# Altium schematic symbol library KOA_Resistors.SchLib: 28 symbols
Pins are listed as number, name and electrical type; pins without a type are passive.

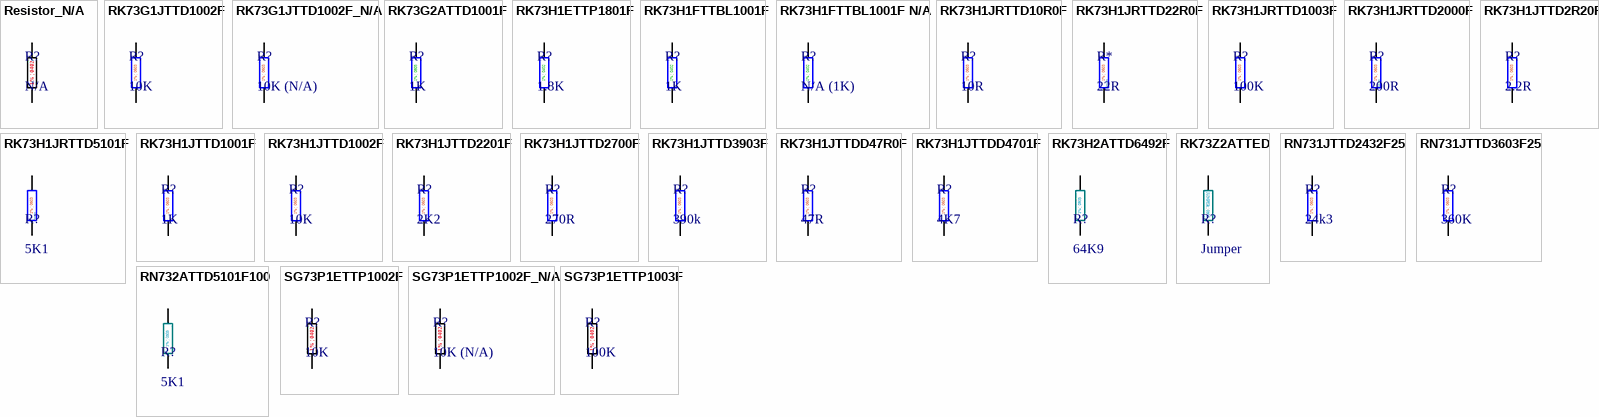
[diagram p0: symbols Resistor_N/A to SG73P1ETTP1003F]

## Resistor_N/A
designator R?, comment N/A  (no BOM)
footprint RES0402N/A (KOA N.A)
pins: 1, 2
text: 1% | 0402

## RK73G1JTTD1002F
designator R?, comment 10K
Thick Film Resistors - SMD 10K OHM 1% 50PPM; Manufacturer: KOA Speer; Manufacturer Part Number: RK73G1JTTD1002F; Resistance: 10KR; Power Rating: 100mW; Voltage Rating: 75V; Temperature Coefficient: 50ppm/°C; Supplier 1: Arrow; Stock 1: 3800; Pricing 1: 1=0.2033, 10=0.1259, 25=0.1243, 100=0.0666, 250=0.0659, 500=0.0651, 1000=0.0497, 3000=0.0492 (USD); Case/Package: 0603; Case Code (Imperial): 0603; Case Code (Metric): 1608; Min Operating Temperature: -55°C; Max Operating Temperature: 125°C; Tolerance: 1%; Packaging: Tape and Reel; Composition: Thick Film; Termination: SMD/SMT; Military Standard: Not; Length: 1.6mm; Depth: 0.8mm; ComponentLink1URL: http://www.mouser.com/ds/2/219/RK73G-9863.pdf; ComponentLink1Description: http://www.mouser.com/ds/2/219/RK73G-9863.pdf
footprint RES0603 (Chip Resistor, 2-Leads, Body 1.6x0.8mm, IPC Medium Density)
pins: 1, 2
text: 1% | 0603

## RK73G1JTTD1002F_N/A
designator R?, comment 10K (N/A)  (no BOM)
Thick Film Resistors - SMD 10K OHM 1% 50PPM; Manufacturer: KOA Speer; Manufacturer Part Number: RK73G1JTTD1002F; Resistance: 10KR; Power Rating: 100mW; Voltage Rating: 75V; Temperature Coefficient: 50ppm/°C; Supplier 1: Arrow; Stock 1: 3800; Pricing 1: 1=0.2033, 10=0.1259, 25=0.1243, 100=0.0666, 250=0.0659, 500=0.0651, 1000=0.0497, 3000=0.0492 (USD); Case/Package: 0603; Case Code (Imperial): 0603; Case Code (Metric): 1608; Min Operating Temperature: -55°C; Max Operating Temperature: 125°C; Tolerance: 1%; Packaging: Tape and Reel; Composition: Thick Film; Termination: SMD/SMT; Military Standard: Not; Length: 1.6mm; Depth: 0.8mm; ComponentLink1URL: http://www.mouser.com/ds/2/219/RK73G-9863.pdf; ComponentLink1Description: http://www.mouser.com/ds/2/219/RK73G-9863.pdf
footprint RES0603 (Chip Resistor, 2-Leads, Body 1.6x0.8mm, IPC Medium Density)
pins: 1, 2
text: 1% | 0603

## RK73G2ATTD1001F
designator R?, comment 1K
Thick Film Resistors - SMD 1K OHM 1% 50PPM; Manufacturer: KOA Speer; Manufacturer Part Number: RK73G2ATTD1001F; Power Rating: 125mW; Resistance: 1KR; Voltage Rating: 150V; Temperature Coefficient: 50ppm/°C; Supplier 1: Arrow; Stock 1: 3570; Pricing 1: 1=0.2033, 10=0.1259, 25=0.1243, 100=0.0666, 250=0.0659, 500=0.0651, 1000=0.0497, 3000=0.0492 (USD); Case/Package: 0805; Case Code (Imperial): 0805; Case Code (Metric): 2012; Min Operating Temperature: -55°C; Max Operating Temperature: 125°C; Packaging: Tape and Reel; Tolerance: 1%; Composition: Thick Film; Termination: SMD/SMT; Package Quantity: 5000; Length: 2mm; Height: 0.5mm; Width: 1.25mm; ComponentLink1URL: http://www.koaspeer.com/catimages/Products/RK73G/RK73G.pdf; ComponentLink1Description: http://www.koaspeer.com/catimages/Products/RK73G/RK73G.pdf
footprint RES0805
pins: 1, 2
text: 1% | 0805

## RK73H1ETTP1801F
designator R?, comment 1.8K
Thick Film Resistors - SMD 1.8K OHM 1%; Manufacturer: KOA Speer; Manufacturer Part Number: RK73H1ETTP1801F; Resistance: 1.8kR; Power Rating: 63mW; Voltage Rating: 50V; Temperature Coefficient: 100ppm/°C; Supplier 1: Mouser; Stock 1: 3595; Pricing 1: 1=0.11, 10=0.027, 50=0.027, 100=0.007, 1000=0.005, 10000=0.004 (USD); Case/Package: 0402; Case Code (Imperial): 0402; Case Code (Metric): 1005; Min Operating Temperature: -55°C; Max Operating Temperature: 155°C; Packaging: Tape and Reel; Tolerance: 1%; Package Quantity: 10000; Composition: Thick Film; Termination: SMD/SMT; Military Standard: Not; Length: 1mm; Height: 0.35mm; Width: 0.5mm; Depth: 0.5mm; Lead Free: Lead Free; ComponentLink1URL: https://datasheet.ciiva.com/5553/rk73h-5715-5553193.pdf; ComponentLink1Description: https://datasheet.ciiva.com/5553/rk73h-5715-5553193.pdf
footprint RES0402
pins: 1, 2
text: 1% | 0402

## RK73H1FTTBL1001F
designator R?, comment 1K
Thick Film Resistors - SMD 1/3W 1K OHM 1%; Manufacturer: KOA Speer; Manufacturer Part Number: RK73H1FTTBL1001F; Power Rating: 30 mW; Resistance: 1 kOhms; Temperature Coefficient: 250 PPM / C; Voltage Rating: 15 V; Qualification: AEC-Q200; Supplier 1: Mouser; RoHS: RoHS Compliant By Exemption; Category: Thick Film Resistors - SMD; Stock 1: 6349; Pricing 1: 1=0.641, 10=0.346, 100=0.196, 1000=0.130, 20000=0.123, 40000=0.101 (USD); Height: 0.13 mm; Length: 0.4 mm; Operating Temperature Range: - 55 C to + 125 C; Package / Case: 01005 (0402 metric); Packaging: Cut Tape; Product: Thick Film Resistors SMD; Series: RK73H; Termination Style: SMD/SMT; Tolerance: 1 %; Type: Precision Resistor; Width: 0.2 mm; Brand: KOA Speer; Case Code - in: 01005; Case Code - mm: 0402; Maximum Operating Temperature: + 125 C; Minimum Operating Temperature: - 55 C; Standard Pack Qty: 20000; RoHS - Mouser: E; Minimum Order Quantity: 1; Reeling: True; ComponentLink1URL: http://www.mouser.com/ds/2/219/RK73H-5715.pdf; ComponentLink1Description: http://www.mouser.com/ds/2/219/RK73H-5715.pdf
footprint RES0402
pins: 1, 2
text: 1% | 0402

## RK73H1FTTBL1001F N/A
designator R?, comment N/A (1K)  (no BOM)
Thick Film Resistors - SMD 1/3W 1K OHM 1%; Manufacturer: KOA Speer; Manufacturer Part Number: RK73H1FTTBL1001F; Power Rating: 30 mW; Resistance: 1 kOhms; Temperature Coefficient: 250 PPM / C; Voltage Rating: 15 V; Qualification: AEC-Q200; Supplier 1: Mouser; RoHS: RoHS Compliant By Exemption; Category: Thick Film Resistors - SMD; Stock 1: 6349; Pricing 1: 1=0.641, 10=0.346, 100=0.196, 1000=0.130, 20000=0.123, 40000=0.101 (USD); Height: 0.13 mm; Length: 0.4 mm; Operating Temperature Range: - 55 C to + 125 C; Package / Case: 01005 (0402 metric); Packaging: Cut Tape; Product: Thick Film Resistors SMD; Series: RK73H; Termination Style: SMD/SMT; Tolerance: 1 %; Type: Precision Resistor; Width: 0.2 mm; Brand: KOA Speer; Case Code - in: 01005; Case Code - mm: 0402; Maximum Operating Temperature: + 125 C; Minimum Operating Temperature: - 55 C; Standard Pack Qty: 20000; RoHS - Mouser: E; Minimum Order Quantity: 1; Reeling: True; ComponentLink1URL: http://www.mouser.com/ds/2/219/RK73H-5715.pdf; ComponentLink1Description: http://www.mouser.com/ds/2/219/RK73H-5715.pdf
footprint RES0402
pins: 1, 2
text: 1% | 0402

## RK73H1JRTTD10R0F
designator R?, comment 10R
Thick Film Resistors - SMD Anti Sulfur 1.0 Tol. 0603 -55oC to 155oC; Manufacturer: KOA Speer; Manufacturer Part Number: RK73H1JRTTD10R0F; Power Rating: 100 mW (1/10 W); Resistance: 10 Ohms; Temperature Coefficient: 100 PPM / C; Tolerance: 1 %; Voltage Rating: 75 V; Qualification: AEC-Q200; Supplier 1: Mouser; RoHS: RoHS Compliant; Category: Thick Film Resistors - SMD; Stock 1: 8438; Pricing 1: 1=0.249, 50=0.143, 100=0.084, 500=0.046, 1000=0.035, 5000=0.032, 10000=0.024, 15000=0.020 (USD); Height: 0.45 mm; Length: 1.6 mm; Package / Case: 0603 (1608 metric); Packaging: Cut Tape; Product: Thick Film Resistors SMD; Series: RK73H-RT; Termination Style: SMD/SMT; Type: Precision Thick Film Chip Resistor; Width: 0.8 mm; Brand: KOA Speer; Case Code - in: 0603; Case Code - mm: 1608; Maximum Operating Temperature: + 155 C; Minimum Operating Temperature: - 55 C; Standard Pack Qty: 5000; RoHS - Mouser: Y; Minimum Order Quantity: 1; Reeling: True; ComponentLink1URL: https://www.mouser.com/ds/2/219/RK73H-5715.pdf; ComponentLink1Description: https://www.mouser.com/ds/2/219/RK73H-5715.pdf
footprint RES0603 (Chip Resistor, 2-Leads, Body 1.6x0.8mm, IPC Medium Density)
pins: 1, 2
text: 1% | 0603

## RK73H1JRTTD22R0F
designator R*, comment 22R
Thick Film Resistors - SMD Anti Sulfur 1.0 Tol. 0603 -55oC to 155oC; Manufacturer: KOA Speer; Manufacturer Part Number: RK73H1JRTTD22R0F; Power Rating: 100 mW; Resistance: 22 Ohms; Temperature Coefficient: 100 PPM / C; Tolerance: 1 %; Voltage Rating: 75 V; Qualification: AEC-Q200; Supplier 1: Mouser; RoHS: RoHS Compliant; Category: Thick Film Resistors - SMD; Stock 1: 4722; Pricing 1: 1=1.20, 50=0.084, 100=0.046, 500=0.035, 1000=0.032, 5000=0.031, 10000=0.018, 15000=0.017 (USD); Height: 0.45 mm; Length: 1.6 mm; Operating Temperature Range: - 55 C to + 155 C; Package / Case: 0603 (1608 metric); Packaging: Cut Tape; Product: Thick Film Resistors SMD; Series: RK73H-RT; Termination Style: SMD/SMT; Type: Precision Thick Film Chip Resistor; Width: 0.8 mm; Brand: KOA Speer; Case Code - in: 0603; Case Code - mm: 1608; Maximum Operating Temperature: + 155 C; Minimum Operating Temperature: - 55 C; Standard Pack Qty: 5000; RoHS - Mouser: Y; Minimum Order Quantity: 1; Reeling: True; ComponentLink1URL: http://www.mouser.com/ds/2/219/RK73H-5715.pdf; ComponentLink1Description: http://www.mouser.com/ds/2/219/RK73H-5715.pdf
footprint RES0603 (Chip Resistor, 2-Leads, Body 1.6x0.8mm, IPC Medium Density)
pins: 1, 2
text: 1% | 0603; Antisulfur

## RK73H1JRTTD1003F
designator R?, comment 100K
Thick Film Resistors - SMD Anti Sulfur 1.0 Tol. 0603 -55oC to 155oC; Manufacturer: KOA Speer; Manufacturer Part Number: RK73H1JRTTD1003F; Power Rating: 100 mW (1/10 W); Resistance: 100 kOhms; Temperature Coefficient: 100 PPM / C; Tolerance: 1 %; Voltage Rating: 75 V; Qualification: AEC-Q200; Supplier 1: Mouser; RoHS: RoHS Compliant; Category: Thick Film Resistors - SMD; Stock 1: 4189; Pricing 1: 1=0.249, 50=0.143, 100=0.084, 500=0.046, 1000=0.035, 5000=0.032, 10000=0.024, 15000=0.020 (USD); Height: 0.45 mm; Length: 1.6 mm; Package / Case: 0603 (1608 metric); Packaging: Cut Tape; Product: Thick Film Resistors SMD; Series: RK73H-RT; Termination Style: SMD/SMT; Type: Precision Thick Film Chip Resistor; Width: 0.8 mm; Brand: KOA Speer; Case Code - in: 0603; Case Code - mm: 1608; Maximum Operating Temperature: + 155 C; Minimum Operating Temperature: - 55 C; Standard Pack Qty: 5000; RoHS - Mouser: Y; Minimum Order Quantity: 1; Reeling: True; ComponentLink1URL: https://www.mouser.com/ds/2/219/RK73H-5715.pdf; ComponentLink1Description: https://www.mouser.com/ds/2/219/RK73H-5715.pdf
footprint RES0603 (Chip Resistor, 2-Leads, Body 1.6x0.8mm, IPC Medium Density)
pins: 1, 2
text: 1% | 0603

## RK73H1JRTTD2000F
designator R?, comment 200R
Thick Film Resistors - SMD Anti Sulfur 1.0 Tol. 0603 -55oC to 155oC; Manufacturer: KOA Speer; Manufacturer Part Number: RK73H1JRTTD2000F; Power Rating: 100 mW (1/10 W); Resistance: 200 Ohms; Temperature Coefficient: 100 PPM / C; Tolerance: 1 %; Voltage Rating: 75 V; Qualification: AEC-Q200; Supplier 1: Mouser; RoHS: RoHS Compliant; Category: Thick Film Resistors - SMD; Stock 1: 7400; Pricing 1: 1=0.249, 50=0.143, 100=0.084, 500=0.046, 1000=0.035, 5000=0.032, 10000=0.024, 15000=0.020, 25000=0.017 (USD); Height: 0.45 mm; Length: 1.6 mm; Package / Case: 0603 (1608 metric); Packaging: Cut Tape; Product: Thick Film Resistors SMD; Series: RK73H-RT; Termination Style: SMD/SMT; Type: Precision Thick Film Chip Resistor; Width: 0.8 mm; Brand: KOA Speer; Case Code - in: 0603; Case Code - mm: 1608; Maximum Operating Temperature: + 155 C; Minimum Operating Temperature: - 55 C; Standard Pack Qty: 5000; RoHS - Mouser: Y; Minimum Order Quantity: 1; Reeling: True; ComponentLink1URL: https://www.mouser.com/ds/2/219/RK73H-5715.pdf; ComponentLink1Description: https://www.mouser.com/ds/2/219/RK73H-5715.pdf
footprint RES0603 (Chip Resistor, 2-Leads, Body 1.6x0.8mm, IPC Medium Density)
pins: 1, 2
text: 1% | 0603; Antisulfur

## RK73H1JRTTD5101F
designator R?, comment 5K1
Thick Film Resistors - SMD Anti Sulfur 0.5 Tol. 0603 -55oC to 155oC; Manufacturer: KOA Speer; Manufacturer Part Number: RK73H1JRTTD5101F; Power Rating: 100 mW (1/10 W); Resistance: 5.1 kOhms; Temperature Coefficient: 100 PPM / C; Tolerance: 1 %; Voltage Rating: 75 V; Qualification: AEC-Q200; Supplier 1: Mouser; RoHS: RoHS Compliant; Category: Thick Film Resistors - SMD; Stock 1: 4972; Pricing 1: 1=0.249, 50=0.143, 100=0.084, 500=0.046, 1000=0.035, 5000=0.032, 10000=0.024, 15000=0.020 (USD); Height: 0.45 mm; Length: 1.6 mm; Package / Case: 0603 (1608 metric); Packaging: Cut Tape; Product: Thick Film Resistors SMD; Series: RK73H-RT; Termination Style: SMD/SMT; Type: Precision Thick Film Chip Resistor; Width: 0.8 mm; Brand: KOA Speer; Case Code - in: 0603; Case Code - mm: 1608; Maximum Operating Temperature: + 155 C; Minimum Operating Temperature: - 55 C; Standard Pack Qty: 5000; RoHS - Mouser: Y; Minimum Order Quantity: 1; Reeling: True; ComponentLink1URL: https://www.mouser.com/ds/2/219/RK73H-5715.pdf; ComponentLink1Description: https://www.mouser.com/ds/2/219/RK73H-5715.pdf
footprint RES0603 (Chip Resistor, 2-Leads, Body 1.6x0.8mm, IPC Medium Density)
pins: 1, 2
text: 1% | 0603; Antisulfur

## RK73H1JTTD2R20F
designator R?, comment 2.2R
Thick Film Resistors - SMD 2.2 OHM 1%; Manufacturer: KOA Speer; Manufacturer Part Number: RK73H1JTTD2R20F; Power Rating: 100 mW; Resistance: 2.2 Ohms; Temperature Coefficient: 200 PPM / C; Voltage Rating: 75 V; Qualification: AEC-Q200; Supplier 1: Mouser; RoHS: RoHS Compliant By Exemption; Category: Thick Film Resistors - SMD; Stock 1: 0; Pricing 1: 1=0.131, 10=0.018, 100=0.009, 500=0.007, 1000=0.006, 5000=0.005, 50000=0.004 (USD); Features: Anti-leaching nickel barrier terminations; Height: 0.45 mm; Length: 1.6 mm; Operating Temperature Range: - 55 C to + 155 C; Package / Case: 0603 (1608 metric); Packaging: Cut Tape; Product: Thick Film Resistors SMD; Series: RK73H; Termination Style: SMD/SMT; Tolerance: 1 %; Type: Precision Thick Film Chip Resistor; Width: 0.8 mm; Brand: KOA Speer; Case Code - in: 0603; Case Code - mm: 1608; Maximum Operating Temperature: + 155 C; Minimum Operating Temperature: - 55 C; Standard Pack Qty: 5000; RoHS - Mouser: E; Minimum Order Quantity: 1; Reeling: True; ComponentLink1URL: http://www.mouser.com/ds/2/219/RK73H-5715.pdf; ComponentLink1Description: http://www.mouser.com/ds/2/219/RK73H-5715.pdf
footprint RES0603 (Chip Resistor, 2-Leads, Body 1.6x0.8mm, IPC Medium Density)
pins: 1, 2
text: 1% | 0603

## RK73H1JTTD1001F
designator R?, comment 1K
Thick Film Resistors - SMD 1/10watts 1Kohms 1%; Manufacturer: KOA Speer; Manufacturer Part Number: RK73H1JTTD1001F; Power Rating: 100 mW; Temperature Coefficient: 100 PPM / C; Voltage Rating: 75 V; Qualification: AEC-Q200; Supplier 1: Mouser; RoHS: RoHS Compliant By Exemption; Category: Thick Film Resistors - SMD; Stock 1: 103999; Pricing 1: 1=0.131, 10=0.018, 100=0.009, 500=0.007, 1000=0.006, 5000=0.005, 50000=0.004 (USD); Features: Anti-leaching nickel barrier terminations; Height: 0.45 mm; Length: 1.6 mm; Operating Temperature Range: - 55 C to + 155 C; Package / Case: 0603 (1608 metric); Packaging: Cut Tape; Product: Thick Film Resistors SMD; Resistance: 1 kOhms; Series: RK73H; Termination Style: SMD/SMT; Tolerance: 1 %; Type: Precision Thick Film Chip Resistor; Width: 0.8 mm; Brand: KOA Speer; Case Code - in: 0603; Case Code - mm: 1608; Maximum Operating Temperature: + 155 C; Minimum Operating Temperature: - 55 C; Standard Pack Qty: 5000; RoHS - Mouser: E; Minimum Order Quantity: 1; Reeling: True; ComponentLink1URL: http://www.mouser.com/ds/2/219/RK73H-5715.pdf; ComponentLink1Description: http://www.mouser.com/ds/2/219/RK73H-5715.pdf
footprint RES0603 (Chip Resistor, 2-Leads, Body 1.6x0.8mm, IPC Medium Density)
pins: 1, 2
text: 1% | 0603

## RK73H1JTTD1002F
designator R?, comment 10K
Thick Film Resistors - SMD 1/10watts 10Kohms 1%; Manufacturer: KOA Speer; Manufacturer Part Number: RK73H1JTTD1002F; Power Rating: 100 mW; Temperature Coefficient: 100 PPM / C; Voltage Rating: 75 V; Qualification: AEC-Q200; Supplier 1: Mouser; RoHS: RoHS Compliant By Exemption; Category: Thick Film Resistors - SMD; Stock 1: 1562883; Pricing 1: 1=0.131, 10=0.018, 100=0.009, 500=0.007, 1000=0.006, 5000=0.005, 50000=0.004 (USD); Features: Anti-leaching nickel barrier terminations; Height: 0.45 mm; Length: 1.6 mm; Operating Temperature Range: - 55 C to + 155 C; Package / Case: 0603 (1608 metric); Packaging: Cut Tape; Product: Thick Film Resistors SMD; Resistance: 10 kOhms; Series: RK73H; Termination Style: SMD/SMT; Tolerance: 1 %; Type: Precision Thick Film Chip Resistor; Width: 0.8 mm; Brand: KOA Speer; Case Code - in: 0603; Case Code - mm: 1608; Maximum Operating Temperature: + 155 C; Minimum Operating Temperature: - 55 C; Standard Pack Qty: 5000; RoHS - Mouser: E; Minimum Order Quantity: 1; Reeling: True; ComponentLink1URL: http://www.mouser.com/ds/2/219/RK73H-5715.pdf; ComponentLink1Description: http://www.mouser.com/ds/2/219/RK73H-5715.pdf
footprint RES0603 (Chip Resistor, 2-Leads, Body 1.6x0.8mm, IPC Medium Density)
pins: 1, 2
text: 1% | 0603

## RK73H1JTTD2201F
designator R?, comment 2K2
Thick Film Resistors - SMD 1/10watt 2.2Kohms 1%; Manufacturer: KOA Speer; Manufacturer Part Number: RK73H1JTTD2201F; Power Rating: 100 mW; Temperature Coefficient: 100 PPM / C; Voltage Rating: 75 V; Qualification: AEC-Q200; Supplier 1: Mouser; RoHS: RoHS Compliant By Exemption; Category: Thick Film Resistors - SMD; Stock 1: 82098; Pricing 1: 1=0.131, 10=0.018, 100=0.009, 500=0.007, 1000=0.006, 5000=0.005, 50000=0.004 (USD); Features: Anti-leaching nickel barrier terminations; Height: 0.45 mm; Length: 1.6 mm; Operating Temperature Range: - 55 C to + 155 C; Package / Case: 0603 (1608 metric); Packaging: Cut Tape; Product: Thick Film Resistors SMD; Resistance: 2.2 kOhms; Series: RK73H; Termination Style: SMD/SMT; Tolerance: 1 %; Type: Precision Thick Film Chip Resistor; Width: 0.8 mm; Brand: KOA Speer; Case Code - in: 0603; Case Code - mm: 1608; Maximum Operating Temperature: + 155 C; Minimum Operating Temperature: - 55 C; Standard Pack Qty: 5000; RoHS - Mouser: E; Minimum Order Quantity: 1; Reeling: True; ComponentLink1URL: http://www.mouser.com/ds/2/219/RK73H-5715.pdf; ComponentLink1Description: http://www.mouser.com/ds/2/219/RK73H-5715.pdf
footprint RES0603 (Chip Resistor, 2-Leads, Body 1.6x0.8mm, IPC Medium Density)
pins: 1, 2
text: 1% | 0603

## RK73H1JTTD2700F
designator R?, comment 270R
Thick Film Resistors - SMD 1/10watts 270ohms 1%; Manufacturer: KOA Speer; Manufacturer Part Number: RK73H1JTTD2700F; Power Rating: 100 mW (1/10 W); Temperature Coefficient: 100 PPM / C; Voltage Rating: 75 V; Qualification: AEC-Q200; Supplier 1: Mouser; RoHS: RoHS Compliant By Exemption; Category: Thick Film Resistors - SMD; Stock 1: 38805; Pricing 1: 1=0.131, 10=0.018, 100=0.009, 500=0.007, 1000=0.006, 5000=0.005, 50000=0.004 (USD); Features: Anti-leaching nickel barrier terminations; Height: 0.45 mm; Length: 1.6 mm; Package / Case: 0603 (1608 metric); Packaging: Cut Tape; Product: Thick Film Resistors SMD; Resistance: 270 Ohms; Series: RK73H; Termination Style: SMD/SMT; Tolerance: 1 %; Type: Precision Thick Film Chip Resistor; Width: 0.8 mm; Brand: KOA Speer; Case Code - in: 0603; Case Code - mm: 1608; Maximum Operating Temperature: + 155 C; Minimum Operating Temperature: - 55 C; Standard Pack Qty: 5000; RoHS - Mouser: E; Minimum Order Quantity: 1; Reeling: True; ComponentLink1URL: https://www.mouser.com/ds/2/219/RK73H-5715.pdf; ComponentLink1Description: https://www.mouser.com/ds/2/219/RK73H-5715.pdf
footprint RES0603 (Chip Resistor, 2-Leads, Body 1.6x0.8mm, IPC Medium Density)
pins: 1, 2
text: 1% | 0603

## RK73H1JTTD3903F
designator R?, comment 390k
Thick Film Resistors - SMD 1/10watt 390Kohms 1%; Manufacturer: KOA Speer; Manufacturer Part Number: RK73H1JTTD3903F; Power Rating: 100 mW; Temperature Coefficient: 100 PPM / C; Voltage Rating: 75 V; Qualification: AEC-Q200; Supplier 1: Mouser; RoHS: RoHS Compliant By Exemption; Category: Thick Film Resistors - SMD; Stock 1: 45788; Pricing 1: 1=0.131, 10=0.018, 100=0.009, 500=0.007, 1000=0.006, 5000=0.005, 50000=0.004 (USD); Features: Anti-leaching nickel barrier terminations; Height: 0.45 mm; Length: 1.6 mm; Operating Temperature Range: - 55 C to + 155 C; Package / Case: 0603 (1608 metric); Packaging: Cut Tape; Product: Thick Film Resistors SMD; Resistance: 390 kOhms; Series: RK73H; Termination Style: SMD/SMT; Tolerance: 1 %; Type: Precision Thick Film Chip Resistor; Width: 0.8 mm; Brand: KOA Speer; Case Code - in: 0603; Case Code - mm: 1608; Maximum Operating Temperature: + 155 C; Minimum Operating Temperature: - 55 C; Standard Pack Qty: 5000; RoHS - Mouser: E; Minimum Order Quantity: 1; Reeling: True; ComponentLink1URL: http://www.mouser.com/ds/2/219/RK73H-5715.pdf; ComponentLink1Description: http://www.mouser.com/ds/2/219/RK73H-5715.pdf
footprint RES0603 (Chip Resistor, 2-Leads, Body 1.6x0.8mm, IPC Medium Density)
pins: 1, 2
text: 1% | 0603

## RK73H1JTTDD47R0F
designator R?, comment 47R
Thick Film Resistors - SMD 47 OHM 1%; Manufacturer: KOA Speer; Manufacturer Part Number: RK73H1JTTDD47R0F; Power Rating: 100 mW; Resistance: 47 Ohms; Temperature Coefficient: 100 PPM / C; Voltage Rating: 75 V; Qualification: AEC-Q200; Supplier 1: Mouser; RoHS: RoHS Compliant By Exemption; Category: Thick Film Resistors - SMD; Stock 1: 22937; Pricing 1: 1=0.131, 10=0.018, 100=0.009, 500=0.007, 1000=0.006, 5000=0.005, 10000=0.005, 20000=0.004 (USD); Features: Anti-leaching nickel barrier terminations; Height: 0.45 mm; Length: 1.6 mm; Operating Temperature Range: - 55 C to + 155 C; Package / Case: 0603 (1608 metric); Packaging: Cut Tape; Product: Thick Film Resistors SMD; Series: RK73H; Termination Style: SMD/SMT; Tolerance: 1 %; Type: Precision Thick Film Chip Resistor; Width: 0.8 mm; Brand: KOA Speer; Case Code - in: 0603; Case Code - mm: 1608; Maximum Operating Temperature: + 155 C; Minimum Operating Temperature: - 55 C; Standard Pack Qty: 10000; RoHS - Mouser: E; Minimum Order Quantity: 1; Reeling: True; ComponentLink1URL: http://www.mouser.com/ds/2/219/RK73H-5715.pdf; ComponentLink1Description: http://www.mouser.com/ds/2/219/RK73H-5715.pdf
footprint RES0603 (Chip Resistor, 2-Leads, Body 1.6x0.8mm, IPC Medium Density)
pins: 1, 2
text: 1% | 0603

## RK73H1JTTDD4701F
designator R?, comment 4K7
Thick Film Resistors - SMD 1/10W 4.7K OHM 1%; Manufacturer: KOA Speer; Manufacturer Part Number: RK73H1JTTDD4701F; Power Rating: 100 mW (1/10 W); Resistance: 4.7 kOhms; Temperature Coefficient: 100 PPM / C; Voltage Rating: 75 V; Qualification: AEC-Q200; Supplier 1: Mouser; RoHS: RoHS Compliant By Exemption; Category: Thick Film Resistors - SMD; Stock 1: 13557; Pricing 1: 1=0.131, 10=0.018, 100=0.009, 500=0.007, 1000=0.006, 5000=0.005, 10000=0.005, 20000=0.004 (USD); Features: Anti-leaching nickel barrier terminations; Height: 0.45 mm; Length: 1.6 mm; Package / Case: 0603 (1608 metric); Packaging: Cut Tape; Product: Thick Film Resistors SMD; Series: RK73H; Termination Style: SMD/SMT; Tolerance: 1 %; Type: Precision Thick Film Chip Resistor; Width: 0.8 mm; Brand: KOA Speer; Case Code - in: 0603; Case Code - mm: 1608; Maximum Operating Temperature: + 155 C; Minimum Operating Temperature: - 55 C; Standard Pack Qty: 10000; RoHS - Mouser: E; Minimum Order Quantity: 1; Reeling: True; ComponentLink1URL: https://www.mouser.com/ds/2/219/RK73H-5715.pdf; ComponentLink1Description: https://www.mouser.com/ds/2/219/RK73H-5715.pdf
footprint RES0603 (Chip Resistor, 2-Leads, Body 1.6x0.8mm, IPC Medium Density)
pins: 1, 2
text: 1% | 0603

## RK73H2ATTD6492F
designator R?, comment 64K9
Thick Film Resistors - SMD 1/4W 64.9K OHM 1%; Manufacturer: KOA Speer; Manufacturer Part Number: RK73H2ATTD6492F; Power Rating: 250 mW (1/4 W); Resistance: 64.9 kOhms; Temperature Coefficient: 100 PPM / C; Voltage Rating: 150 V; Qualification: AEC-Q200; Supplier 1: Mouser; RoHS: RoHS Compliant By Exemption; Category: Thick Film Resistors - SMD; Stock 1: 39411; Pricing 1: 1=0.131, 10=0.019, 100=0.011, 1000=0.009, 5000=0.006, 10000=0.005 (USD); Features: Anti-leaching nickel barrier terminations; Height: 0.5 mm; Length: 2 mm; Package / Case: 0805 (2012 metric); Packaging: Cut Tape; Product: Thick Film Resistors SMD; Series: RK73H; Termination Style: SMD/SMT; Tolerance: 1 %; Type: Precision Thick Film Chip Resistor; Width: 1.25 mm; Brand: KOA Speer; Case Code - in: 0805; Case Code - mm: 2012; Maximum Operating Temperature: + 155 C; Minimum Operating Temperature: - 55 C; Standard Pack Qty: 5000; RoHS - Mouser: E; Minimum Order Quantity: 1; Reeling: True; ComponentLink1URL: https://www.mouser.com/ds/2/219/RK73H-5715.pdf; ComponentLink1Description: https://www.mouser.com/ds/2/219/RK73H-5715.pdf
footprint RES0805
pins: 1, 2
text: 1% | 0805

## RK73Z2ATTED
designator R?, comment Jumper
Thick Film Resistors - SMD ZERO OHM JUMPER; Manufacturer: KOA Speer; Manufacturer Part Number: RK73Z2ATTED; Resistance: 0 Ohms; Qualification: AEC-Q200; Supplier 1: Mouser; RoHS: RoHS Compliant By Exemption; Category: Thick Film Resistors - SMD; Stock 1: 11750; Pricing 1: 1=0.131, 10=0.024, 100=0.009, 1000=0.007, 10000=0.006, 30000=0.005, 50000=0.004 (USD); Height: 0.5 mm; Length: 2 mm; Package / Case: 0805 (2012 metric); Packaging: Cut Tape; Power Rating: -; Product: Thick Film Resistors SMD; Series: RK73Z; Temperature Coefficient: -; Termination Style: SMD/SMT; Tolerance: -; Type: Zero Ohm Jumper; Voltage Rating: -; Width: 1.25 mm; Brand: KOA Speer; Case Code - in: 0805; Case Code - mm: 2012; Maximum Operating Temperature: + 155 C; Minimum Operating Temperature: - 55 C; Standard Pack Qty: 10000; RoHS - Mouser: E; Minimum Order Quantity: 1; Reeling: True; ComponentLink1URL: https://www.mouser.com/ds/2/219/RK73Z-11765.pdf; ComponentLink1Description: https://www.mouser.com/ds/2/219/RK73Z-11765.pdf
footprint R0805 KOA
pins: 1, 2
text: JUMPER | 0805

## RN731JTTD2432F25
designator R?, comment 24k3
Thin Film Resistors - SMD 0603 24K3 Ohms 1% 25PPM; Manufacturer: KOA Speer; Manufacturer Part Number: RN731JTTD2432F25; Power Rating: 62.5 mW (1/16 W); Resistance: 24.3 kOhms; Temperature Coefficient: 25 PPM / C; Voltage Rating: 50 V; Supplier 1: Mouser; RoHS: RoHS Compliant; Category: Thin Film Resistors - SMD; Stock 1: 0; Pricing 1: 1=0.237, 25=0.181, 100=0.140, 500=0.114, 1000=0.091, 2000=0.089, 5000=0.079, 10000=0.076, 25000=0.073 (USD); Height: 0.45 mm; Length: 1.6 mm; Operating Temperature Range: - 55 C to + 155 C; Package / Case: 0603 (1608 metric); Packaging: Cut Tape; Product: Precision Resistors Thin Film SMD; Series: RN73; Termination Style: SMD/SMT; Tolerance: 1 %; Type: Thin Film (Metal) Chip Resistor-Ultra High Precision Tolerance; Width: 0.8 mm; Brand: KOA Speer; Case Code - in: 0603; Case Code - mm: 1608; Maximum Operating Temperature: + 155 C; Minimum Operating Temperature: - 55 C; Standard Pack Qty: 5000; RoHS - Mouser: Y; Minimum Order Quantity: 1; Reeling: True; ComponentLink1URL: http://www.mouser.com/ds/2/219/RN73-11994.pdf; ComponentLink1Description: http://www.mouser.com/ds/2/219/RN73-11994.pdf
footprint RES0603 (Chip Resistor, 2-Leads, Body 1.6x0.8mm, IPC Medium Density)
pins: 1, 2
text: 1% | 0603

## RN731JTTD3603F25
designator R?, comment 360K
Thin Film Resistors - SMD 360kOhm,0603,1%,25pp m,63mW,50V; Manufacturer: KOA Speer; Manufacturer Part Number: RN731JTTD3603F25; Power Rating: 62.5 mW (1/16 W); Resistance: 360 kOhms; Temperature Coefficient: 25 PPM / C; Supplier 1: Mouser; RoHS: RoHS Compliant; Category: Thin Film Resistors - SMD; Stock 1: 1721; Pricing 1: 1=0.237, 25=0.181, 100=0.140, 500=0.114, 1000=0.091, 2000=0.089, 5000=0.079, 10000=0.076, 25000=0.073 (USD); Height: 0.45 mm; Length: 1.6 mm; Operating Temperature Range: - 55 C to + 155 C; Package / Case: 0603 (1608 metric); Packaging: Cut Tape; Product: Precision Resistors Thin Film SMD; Series: RN73; Termination Style: SMD/SMT; Tolerance: 1 %; Type: Thin Film (Metal) Chip Resistor-Ultra High Precision Tolerance; Voltage Rating: 50 V; Width: 0.8 mm; Brand: KOA Speer; Case Code - in: 0603; Case Code - mm: 1608; Maximum Operating Temperature: + 155 C; Minimum Operating Temperature: - 55 C; Standard Pack Qty: 5000; RoHS - Mouser: Y; Minimum Order Quantity: 1; Reeling: True; ComponentLink1URL: https://www.mouser.com/ds/2/219/RN73-11994.pdf; ComponentLink1Description: https://www.mouser.com/ds/2/219/RN73-11994.pdf
footprint RES0603 (Chip Resistor, 2-Leads, Body 1.6x0.8mm, IPC Medium Density)
pins: 1, 2
text: 1% | 0603

## RN732ATTD5101F100
designator R?, comment 5K1
Thin Film Resistors - SMD 0805 5K10 Ohms 1% 10PPM; Manufacturer: KOA Speer; Manufacturer Part Number: RN732ATTD5101F100; Power Rating: 125 mW (1/8 W); Resistance: 5.1 kOhms; Temperature Coefficient: 100 PPM / C; Product Status: New at Mouser; Supplier 1: Mouser; RoHS: RoHS Compliant; Category: Thin Film Resistors - SMD; Stock 1: 0; Pricing 1: 1=0.284, 25=0.219, 100=0.171, 500=0.139, 1000=0.112, 2000=0.109, 5000=0.096, 10000=0.092, 25000=0.090 (USD); Diameter: -; Height: 0.5 mm; Length: 0.8 mm; Operating Temperature Range: - 55 C to + 155 C; Package / Case: 0805 (2012 metric); Packaging: Cut Tape; Series: RN73; Termination Style: SMD/SMT; Tolerance: 1 %; Type: Ultra Precision Resistor; Width: 0.5 mm; Brand: KOA Speer; Case Code - in: 0805; Case Code - mm: 2012; Maximum Operating Temperature: + 155 C; Minimum Operating Temperature: - 55 C; Standard Pack Qty: 5000; RoHS - Mouser: Y; Minimum Order Quantity: 1; Reeling: True; ComponentLink1URL: https://www.mouser.com/ds/2/219/RN73-11994.pdf; ComponentLink1Description: https://www.mouser.com/ds/2/219/RN73-11994.pdf
footprint R0805 KOA
pins: 1, 2
text: 1% | 0805

## SG73P1ETTP1002F
designator R?, comment 10K
Thick Film Resistors - SMD 0.125W 10Kohm 1% 200ppm Anti-Pulse; Manufacturer: KOA Speer; Manufacturer Part Number: SG73P1ETTP1002F; Power Rating: 125 mW (1/8 W); Resistance: 10 kOhms; Temperature Coefficient: 200 PPM / C; Voltage Rating: 50 V; Qualification: AEC-Q200; Supplier 1: Mouser; RoHS: RoHS Compliant By Exemption; Category: Thick Film Resistors - SMD; Stock 1: 9600; Pricing 1: 1=0.284, 25=0.063, 100=0.048, 250=0.044, 500=0.041, 1000=0.035, 5000=0.022, 10000=0.021, 20000=0.020 (USD); Height: 0.35 mm; Length: 1 mm; Package / Case: 0402 (1005 metric); Packaging: Cut Tape; Product: Thick Film Resistors SMD; Series: SG73P; Termination Style: SMD/SMT; Tolerance: 1 %; Type: Anti-Surge Resistor; Width: 0.5 mm; Brand: KOA Speer; Case Code - in: 0402; Case Code - mm: 1005; Maximum Operating Temperature: + 155 C; Minimum Operating Temperature: - 55 C; Standard Pack Qty: 10000; RoHS - Mouser: E; Minimum Order Quantity: 1; Reeling: True; ComponentLink1URL: https://www.mouser.com/ds/2/219/SG73P-1108936.pdf; ComponentLink1Description: https://www.mouser.com/ds/2/219/SG73P-1108936.pdf
footprint RES0402
pins: 1, 2
text: 1% | 0402

## SG73P1ETTP1002F_N/A
designator R?, comment 10K (N/A)  (no BOM)
Thick Film Resistors - SMD 0.125W 10Kohm 1% 200ppm Anti-Pulse; Manufacturer: KOA Speer; Manufacturer Part Number: SG73P1ETTP1002F; Power Rating: 125 mW (1/8 W); Resistance: 10 kOhms; Temperature Coefficient: 200 PPM / C; Voltage Rating: 50 V; Qualification: AEC-Q200; Supplier 1: Mouser; RoHS: RoHS Compliant By Exemption; Category: Thick Film Resistors - SMD; Stock 1: 9600; Pricing 1: 1=0.284, 25=0.063, 100=0.048, 250=0.044, 500=0.041, 1000=0.035, 5000=0.022, 10000=0.021, 20000=0.020 (USD); Height: 0.35 mm; Length: 1 mm; Package / Case: 0402 (1005 metric); Packaging: Cut Tape; Product: Thick Film Resistors SMD; Series: SG73P; Termination Style: SMD/SMT; Tolerance: 1 %; Type: Anti-Surge Resistor; Width: 0.5 mm; Brand: KOA Speer; Case Code - in: 0402; Case Code - mm: 1005; Maximum Operating Temperature: + 155 C; Minimum Operating Temperature: - 55 C; Standard Pack Qty: 10000; RoHS - Mouser: E; Minimum Order Quantity: 1; Reeling: True; ComponentLink1URL: https://www.mouser.com/ds/2/219/SG73P-1108936.pdf; ComponentLink1Description: https://www.mouser.com/ds/2/219/SG73P-1108936.pdf
footprint RES0402N/A (KOA N.A)
pins: 1, 2
text: 1% | 0402

## SG73P1ETTP1003F
designator R?, comment 100K
Thick Film Resistors - SMD 0.125W 100Kohm 1% 200ppm; Manufacturer: KOA Speer; Manufacturer Part Number: SG73P1ETTP1003F; Resistance: 100kR; Power Rating: 125mW; Voltage Rating: 200V; Temperature Coefficient: 200ppm/°C; Voltage Rating (DC): 50V; Supplier 1: Mouser; Stock 1: 17094; Pricing 1: 1=0.24, 10=0.24, 50=0.053, 100=0.041, 1000=0.03, 10000=0.018 (USD); Case/Package: 0402; Case Code (Imperial): 0402; Case Code (Metric): 1005; Min Operating Temperature: -55°C; Max Operating Temperature: 155°C; Tolerance: 1%; Packaging: Tape and Reel; Termination: SMD/SMT; ComponentLink1URL: https://datasheet.ciiva.com/5567/sg73-5567782.pdf; ComponentLink1Description: https://datasheet.ciiva.com/5567/sg73-5567782.pdf
footprint RES0402
pins: 1, 2
text: 1% | 0402